# Altium footprint library SOP254P916X480-6N.PcbLib: 1 footprints
Each footprint in its own frame and in the unit in brackets; x right, y up, seen from the top. Pads: shape width x height; smd on the part's side, far side on the other; paste and mask are expansions set on the pad; w line width, h text height; cw(c..) or ccw(c..) is an arc to the next point about the centre after c.
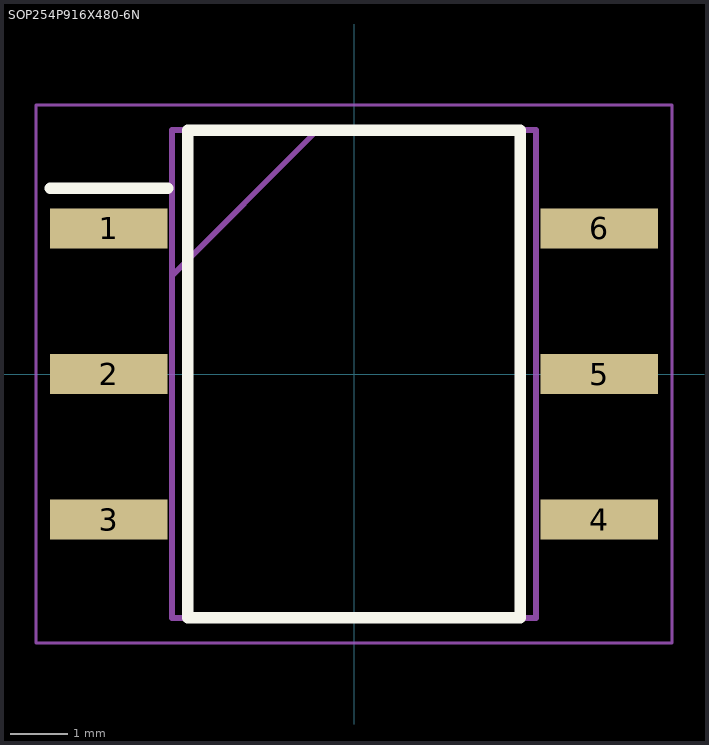
[diagram p0: the footprint, top view; thin cyan lines are the x and y axes]

## SOP254P916X480-6N [mm]
pads (6):
  rect 2.05x0.7 smd: 1(-4.275,2.54) 2(-4.275,0) 3(-4.275,-2.54) 4(4.275,-2.54) 5(4.275,0) 6(4.275,2.54)
Top Overlay:
  lines w0.2: -5.3,3.24 -3.25,3.24 ; -2.9,-4.255 2.9,-4.255 2.9,4.255 -2.9,4.255 -2.9,-4.255
Mechanical 15:
  lines w0.1: -3.175,1.715 -0.635,4.255 ; -3.175,-4.255 3.175,-4.255 3.175,4.255 -3.175,4.255 -3.175,-4.255
Mechanical 20:
  lines w0.05: -5.55,-4.695 5.55,-4.695 5.55,4.695 -5.55,4.695 -5.55,-4.695